# EAGLE library part ST22 (library perthold-engineering-priv)
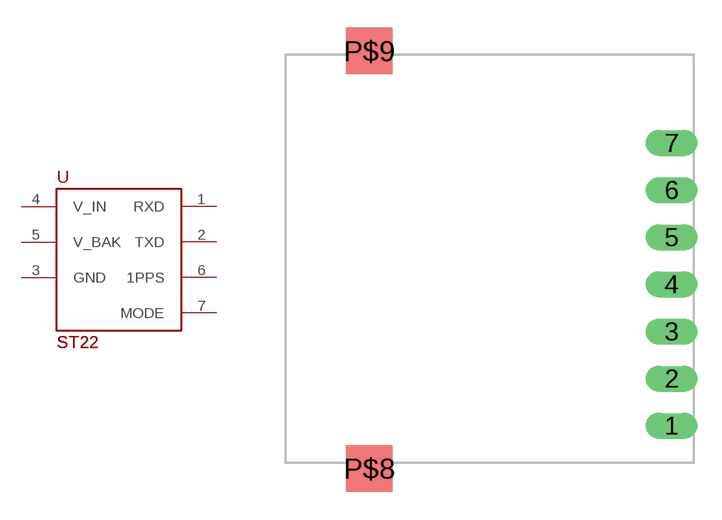
[diagram p0: symbol with the pads of ST22; footprint ST22]

Designator prefix -

## ST22ST22  [ST22]
1  RXD  in
2  TXD  out
3  GND  pwr
4  V_IN  pwr
5  V_BAK  pwr
6  1PPS  out
7  MODE  in

## Footprint ST22 (pad centres in mm)
drill 0.9 pad 1.016 long: 1 0,0; 2 0,2.54; 3 0,5.08; 4 0,7.62; 5 0,10.16; 6 0,12.7; 7 0,15.24
smd 2.5 x 2.5: P$8 -16.3,-2.3; P$9 -16.3,20.2